# EAGLE library part CY8CKIT-059_TARGET (library CYKIT)
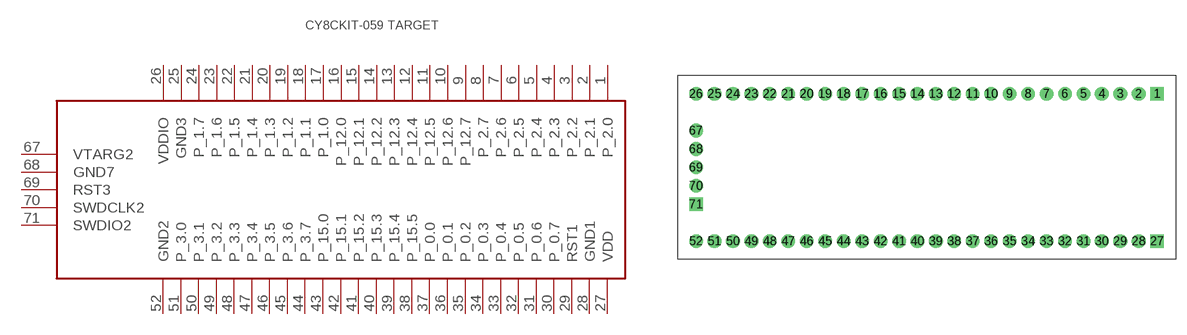
[diagram p2: symbol with the pads of CY8CKIT-059_TARGET; footprint CY8CKIT-059_TARGET]

Designator prefix -

## CY8CKIT-059_TARGET  [CY8CKIT-059_TARGET]
1  P_2.0
2  P_2.1
3  P_2.2
4  P_2.3
5  P_2.4
6  P_2.5
7  P_2.6
8  P_2.7
9  P_12.7
10  P_12.6
11  P_12.5
12  P_12.4
13  P_12.3
14  P_12.2
15  P_12.1
16  P_12.0
17  P_1.0
18  P_1.1
19  P_1.2
20  P_1.3
21  P_1.4
22  P_1.5
23  P_1.6
24  P_1.7
25  GND3
26  VDDIO
27  VDD
28  GND1
29  RST1
30  P_0.7
31  P_0.6
32  P_0.5
33  P_0.4
34  P_0.3
35  P_0.2
36  P_0.1
37  P_0.0
38  P_15.5
39  P_15.4
40  P_15.3
41  P_15.2
42  P_15.1
43  P_15.0
44  P_3.7
45  P_3.6
46  P_3.5
47  P_3.4
48  P_3.3
49  P_3.2
50  P_3.1
51  P_3.0
52  GND2
67  VTARG2
68  GND7
69  RST3
70  SWDCLK2
71  SWDIO2

## Footprint CY8CKIT-059_TARGET (pad centres in mm)
drill 1.016 pad 1.876 square: 1 30.48,8.89; 27 30.48,-11.43; 71 -33.02,-6.35
drill 1.016 pad 1.876: 2 27.94,8.89; 3 25.4,8.89; 4 22.86,8.89; 5 20.32,8.89; 6 17.78,8.89; 7 15.24,8.89; 8 12.7,8.89; 9 10.16,8.89; 10 7.62,8.89; 11 5.08,8.89; 12 2.54,8.89; 13 0,8.89; 14 -2.54,8.89; 15 -5.08,8.89; 16 -7.62,8.89; 17 -10.16,8.89; 18 -12.7,8.89; 19 -15.24,8.89; 20 -17.78,8.89; 21 -20.32,8.89; 22 -22.86,8.89; 23 -25.4,8.89; 24 -27.94,8.89; 25 -30.48,8.89; 26 -33.02,8.89; 28 27.94,-11.43; 29 25.4,-11.43; 30 22.86,-11.43; 31 20.32,-11.43; 32 17.78,-11.43; 33 15.24,-11.43; 34 12.7,-11.43; 35 10.16,-11.43; 36 7.62,-11.43; 37 5.08,-11.43; 38 2.54,-11.43; 39 0,-11.43; 40 -2.54,-11.43; 41 -5.08,-11.43; 42 -7.62,-11.43; 43 -10.16,-11.43; 44 -12.7,-11.43; 45 -15.24,-11.43; 46 -17.78,-11.43; 47 -20.32,-11.43; 48 -22.86,-11.43; 49 -25.4,-11.43; 50 -27.94,-11.43; 51 -30.48,-11.43; 52 -33.02,-11.43; 67 -33.02,3.81; 68 -33.02,1.27; 69 -33.02,-1.27; 70 -33.02,-3.81